# Altium integrated library Xilinx Aerospace and Defense.IntLib: 197 symbols (part 31 of 56)
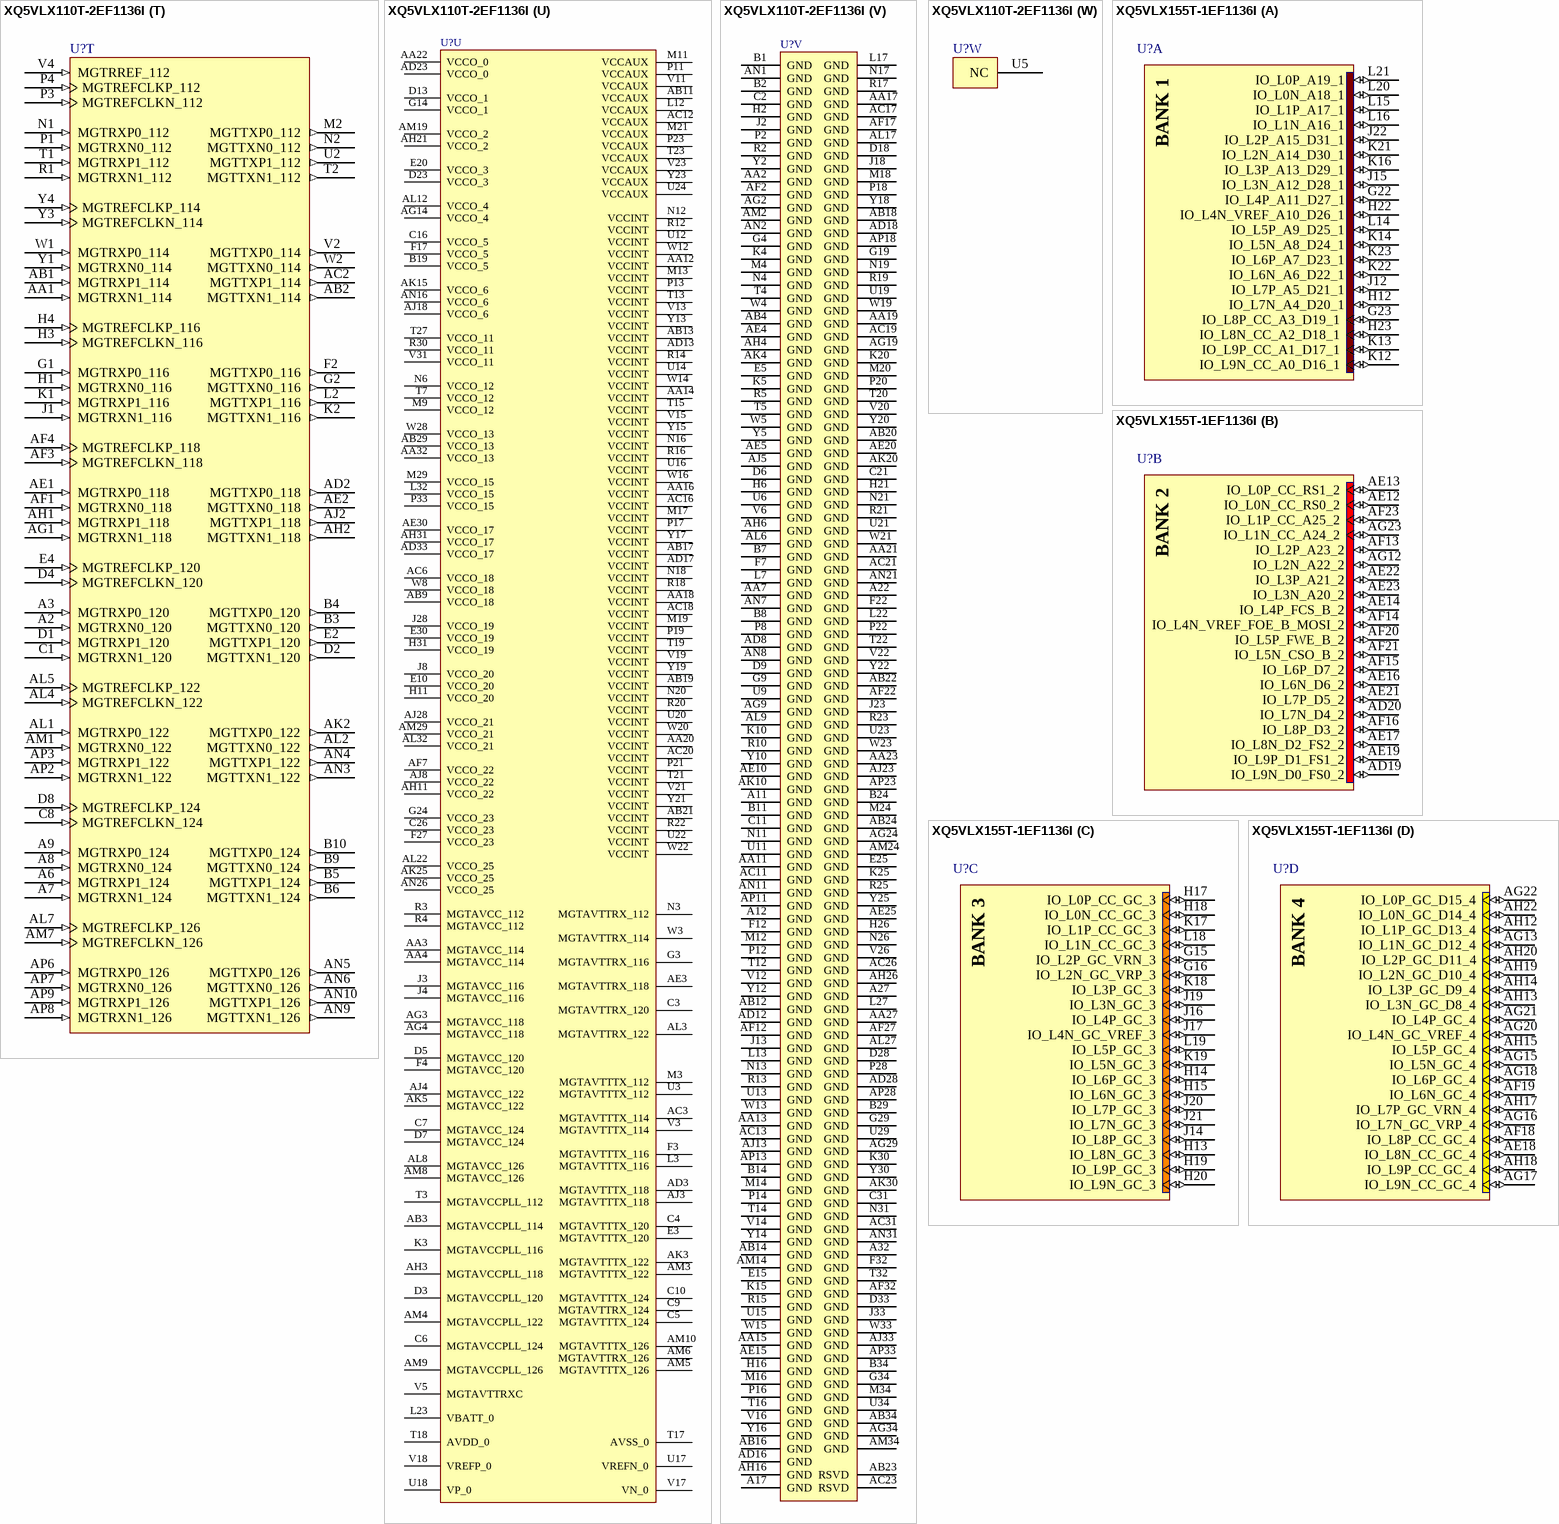
[diagram p441: symbols XQ5VLX110T-2EF1136I to XQ5VLX155T-1EF1136I]

## XQ5VLX110T-2EF1136I
designator U?
Virtex-5Q LXT Platform FPGA, 640 User I/Os, 1136-Ball EFBGA, Speed Grade 2, Industrial Grade; ComponentAvailability: Confirm availability with manufacturer.; Note: Do not connect a single-ended clock to the N-side of clock capable pins (CC & GC pins).; Published: 17-Nov-2009; LatestRevisionDate: 01-Mar-2010; LatestRevisionNote: Updated to datasheet version 1.1 Dec-2009.; DatasheetVersion: ver1.1, Dec-2009; PackageVersion: ver1.0, May-2009; PackageReference: EF1136; Publisher: Altium Limited; PackageDescription: 1136-Ball Flip Chip Ball Grid Array (EF1136); Code_JEDEC: MS-034-AAR-1 (Depopulated); ComponentLink1Description: Virtex-5Q Datasheet; ComponentLink1URL: http://www.xilinx.com/support/documentation/data_sheets/ds174.pdf; ComponentLink2Description: Pinout Specification; ComponentLink2URL: http://direct.xilinx.com/bvdocs/userguides/ug195.pdf; ComponentLink3Description: EF1136 Package Drawing; ComponentLink3URL: http://www.xilinx.com/support/documentation/package_specs/ef1136.pdf; ComponentLink4Description: Virtex-5Q Documents; ComponentLink4URL: http://www.xilinx.com/support/documentation/virtex-5q.htm; ComponentLink5Description: Xilinx.com Home; ComponentLink5URL: http://www.xilinx.com
footprint EF1136 (BGA, 1136-Leads, Body 35x35mm, Pitch 1mm)
signal-integrity model XQ5VLX110T_EF1136 (Virtex-5Q)
part A pins: G22 IO_L4P_A11_D27_1 (io), G23 IO_L8P_CC_A3_D19_1 (io), H12 IO_L7N_A4_D20_1 (io), H22 IO_L4N_VREF_A10_D26_1 (io), H23 IO_L8N_CC_A2_D18_1 (io), J12 IO_L7P_A5_D21_1 (io), J15 IO_L3N_A12_D28_1 (io), J22 IO_L2P_A15_D31_1 (io), K12 IO_L9N_CC_A0_D16_1 (io), K13 IO_L9P_CC_A1_D17_1 (io), K14 IO_L5N_A8_D24_1 (io), K16 IO_L3P_A13_D29_1 (io), K21 IO_L2N_A14_D30_1 (io), K22 IO_L6N_A6_D22_1 (io), K23 IO_L6P_A7_D23_1 (io), L14 IO_L5P_A9_D25_1 (io), L15 IO_L1P_A17_1 (io), L16 IO_L1N_A16_1 (io), L20 IO_L0N_A18_1 (io), L21 IO_L0P_A19_1 (io)
part B pins: AD19 IO_L9N_D0_FS0_2 (io), AD20 IO_L7N_D4_2 (io), AE12 IO_L0N_CC_RS0_2 (io), AE13 IO_L0P_CC_RS1_2 (io), AE14 IO_L4P_FCS_B_2 (io), AE16 IO_L6N_D6_2 (io), AE17 IO_L8N_D2_FS2_2 (io), AE19 IO_L9P_D1_FS1_2 (io), AE21 IO_L7P_D5_2 (io), AE22 IO_L3P_A21_2 (io), AE23 IO_L3N_A20_2 (io), AF13 IO_L2P_A23_2 (io), AF14 IO_L4N_VREF_FOE_B_MOSI_2 (io), AF15 IO_L6P_D7_2 (io), AF16 IO_L8P_D3_2 (io), AF20 IO_L5P_FWE_B_2 (io), AF21 IO_L5N_CSO_B_2 (io), AF23 IO_L1P_CC_A25_2 (io), AG12 IO_L2N_A22_2 (io), AG23 IO_L1N_CC_A24_2 (io)
part C pins: G15 IO_L2P_GC_VRN_3 (io), G16 IO_L2N_GC_VRP_3 (io), H13 IO_L8N_GC_3 (io), H14 IO_L6P_GC_3 (io), H15 IO_L6N_GC_3 (io), H17 IO_L0P_CC_GC_3 (io), H18 IO_L0N_CC_GC_3 (io), H19 IO_L9P_GC_3 (io), H20 IO_L9N_GC_3 (io), J14 IO_L8P_GC_3 (io), J16 IO_L4P_GC_3 (io), J17 IO_L4N_GC_VREF_3 (io), J19 IO_L3N_GC_3 (io), J20 IO_L7P_GC_3 (io), J21 IO_L7N_GC_3 (io), K17 IO_L1P_CC_GC_3 (io), K18 IO_L3P_GC_3 (io), K19 IO_L5N_GC_3 (io), L18 IO_L1N_CC_GC_3 (io), L19 IO_L5P_GC_3 (io)
part D pins: AE18 IO_L8N_CC_GC_4 (io), AF18 IO_L8P_CC_GC_4 (io), AF19 IO_L6N_GC_4 (io), AG13 IO_L1N_GC_D12_4 (io), AG15 IO_L5N_GC_4 (io), AG16 IO_L7N_GC_VRP_4 (io), AG17 IO_L9N_CC_GC_4 (io), AG18 IO_L6P_GC_4 (io), AG20 IO_L4N_GC_VREF_4 (io), AG21 IO_L4P_GC_4 (io), AG22 IO_L0P_GC_D15_4 (io), AH12 IO_L1P_GC_D13_4 (io), AH13 IO_L3N_GC_D8_4 (io), AH14 IO_L3P_GC_D9_4 (io), AH15 IO_L5P_GC_4 (io), AH17 IO_L7P_GC_VRN_4 (io), AH18 IO_L9P_CC_GC_4 (io), AH19 IO_L2N_GC_D10_4 (io), AH20 IO_L2P_GC_D11_4 (io), AH22 IO_L0N_GC_D14_4 (io)
part E pins: A14 IO_L1N_5 (io), A15 IO_L1P_5 (io), A16 IO_L2N_5 (io), B15 IO_L0N_5 (io), B16 IO_L0P_5 (io), B17 IO_L2P_5 (io), C14 IO_L3P_5 (io), C15 IO_L3N_5 (io), C17 IO_L5P_5 (io), D14 IO_L9P_CC_5 (io), D15 IO_L7N_5 (io), D16 IO_L7P_5 (io), D17 IO_L5N_5 (io), D19 IO_L12N_VRP_5 (io), D20 IO_L6N_5 (io), D21 IO_L13P_5 (io), D22 IO_L13N_5 (io), D24 IO_L17P_5 (io), E14 IO_L9N_CC_5 (io), E16 IO_L10N_CC_5 (io), E17 IO_L10P_CC_5 (io), E18 IO_L12P_VRN_5 (io), E19 IO_L4P_5 (io), E21 IO_L6P_5 (io), E22 IO_L15P_5 (io), E23 IO_L17N_5 (io), E24 IO_L19N_5 (io), F14 IO_L18P_5 (io), F15 IO_L18N_5 (io), F16 IO_L16N_5 (io), F18 IO_L14P_5 (io), F19 IO_L4N_VREF_5 (io), F20 IO_L8N_CC_5 (io), F21 IO_L11P_CC_5 (io), F23 IO_L15N_5 (io), F24 IO_L19P_5 (io), G17 IO_L16P_5 (io), G18 IO_L14N_VREF_5 (io), G20 IO_L8P_CC_5 (io), G21 IO_L11N_CC_5 (io)
part F pins: AH23 IO_L2P_6 (io), AH24 IO_L0P_6 (io), AJ12 IO_L1N_6 (io), AJ14 IO_L5P_6 (io), AJ15 IO_L9N_CC_6 (io), AJ16 IO_L9P_CC_6 (io), AJ17 IO_L12N_VRP_6 (io), AJ19 IO_L15P_6 (io), AJ20 IO_L8N_CC_6 (io), AJ21 IO_L8P_CC_6 (io), AJ22 IO_L2N_6 (io), AJ24 IO_L0N_6 (io), AK12 IO_L1P_6 (io), AK13 IO_L3N_6 (io), AK14 IO_L5N_6 (io), AK16 IO_L10P_CC_6 (io), AK17 IO_L12P_VRN_6 (io), AK18 IO_L14P_6 (io), AK19 IO_L15N_6 (io), AK21 IO_L11N_CC_6 (io), AK22 IO_L6N_6 (io), AK23 IO_L6P_6 (io), AK24 IO_L4P_6 (io), AL13 IO_L3P_6 (io), AL14 IO_L7N_6 (io), AL15 IO_L7P_6 (io), AL16 IO_L10N_CC_6 (io), AL18 IO_L14N_VREF_6 (io), AL19 IO_L13P_6 (io), AL20 IO_L13N_6 (io), AL21 IO_L11P_CC_6 (io), AL23 IO_L4N_VREF_6 (io), AM15 IO_L16P_6 (io), AM16 IO_L16N_6 (io), AM17 IO_L19P_6 (io), AN15 IO_L18P_6 (io), AN17 IO_L19N_6 (io), AP15 IO_L18N_6 (io), AP16 IO_L17P_6 (io), AP17 IO_L17N_6 (io)
part G pins: A33 IO_L0N_11 (io), B32 IO_L0P_11 (io), B33 IO_L1P_11 (io), C32 IO_L2P_11 (io), C33 IO_L1N_11 (io), C34 IO_L3P_11 (io), D32 IO_L2N_11 (io), D34 IO_L3N_11 (io), E32 IO_L6P_11 (io), E33 IO_L6N_11 (io), E34 IO_L5N_11 (io), F33 IO_L5P_11 (io), F34 IO_L7N_11 (io), G32 IO_L4P_11 (io), G33 IO_L7P_11 (io), H32 IO_L4N_VREF_11 (io), H33 IO_L8N_CC_11 (io), H34 IO_L9P_CC_11 (io), J32 IO_L8P_CC_11 (io), J34 IO_L9N_CC_11 (io), K32 IO_L11N_CC_SM14N_11 (io), K33 IO_L11P_CC_SM14P_11 (io), K34 IO_L10N_CC_SM15N_11 (io), L33 IO_L13P_11 (io), L34 IO_L10P_CC_SM15P_11 (io), M32 IO_L13N_11 (io), M33 IO_L12N_VRP_11 (io), N32 IO_L15N_SM13N_11 (io), N33 IO_L12P_VRN_11 (io), N34 IO_L14N_VREF_11 (io), P32 IO_L15P_SM13P_11 (io), P34 IO_L14P_11 (io), R32 IO_L17N_SM11N_11 (io), R33 IO_L17P_SM11P_11 (io), R34 IO_L16N_SM12N_11 (io), T33 IO_L16P_SM12P_11 (io), T34 IO_L18N_SM10N_11 (io), U31 IO_L19N_SM9N_11 (io), U32 IO_L19P_SM9P_11 (io), U33 IO_L18P_SM10P_11 (io)
part H pins: E6 IO_L19P_12 (io), E7 IO_L19N_12 (io), F5 IO_L15P_12 (io), F6 IO_L15N_12 (io), G5 IO_L13N_12 (io), G6 IO_L17P_12 (io), G7 IO_L17N_12 (io), H5 IO_L13P_12 (io), H7 IO_L11P_CC_12 (io), J5 IO_L8N_CC_12 (io), J6 IO_L8P_CC_12 (io), J7 IO_L11N_CC_12 (io), K6 IO_L6N_12 (io), K7 IO_L6P_12 (io), L4 IO_L4P_12 (io), L5 IO_L4N_VREF_12 (io), L6 IO_L2N_12 (io), M5 IO_L0N_12 (io), M6 IO_L0P_12 (io), M7 IO_L2P_12 (io), N5 IO_L3P_12 (io), N7 IO_L1N_12 (io), N8 IO_L1P_12 (io), P5 IO_L3N_12 (io), P6 IO_L5N_12 (io), P7 IO_L5P_12 (io), P9 IO_L12N_VRP_12 (io), P10 IO_L14N_VREF_12 (io), R6 IO_L7P_12 (io), R7 IO_L9P_CC_12 (io), R8 IO_L9N_CC_12 (io), R9 IO_L12P_VRN_12 (io), R11 IO_L14P_12 (io), T6 IO_L7N_12 (io), T8 IO_L10P_CC_12 (io), T9 IO_L18P_12 (io), T10 IO_L16P_12 (io), T11 IO_L16N_12 (io), U7 IO_L10N_CC_12 (io), U10 IO_L18N_12 (io)
part I pins: AA33 IO_L2N_SM6N_13 (io), AA34 IO_L3P_SM5P_13 (io), AB32 IO_L6N_SM3N_13 (io), AB33 IO_L7N_SM2N_13 (io), AC32 IO_L6P_SM3P_13 (io), AC33 IO_L7P_SM2P_13 (io), AC34 IO_L5P_SM4P_13 (io), AD32 IO_L11P_CC_13 (io), AD34 IO_L5N_SM4N_13 (io), AE32 IO_L11N_CC_13 (io), AE33 IO_L8N_CC_SM1N_13 (io), AE34 IO_L9N_CC_SM0N_13 (io), AF33 IO_L8P_CC_SM1P_13 (io), AF34 IO_L9P_CC_SM0P_13 (io), AG32 IO_L14P_13 (io), AG33 IO_L12P_VRN_13 (io), AH32 IO_L14N_VREF_13 (io), AH33 IO_L12N_VRP_13 (io), AH34 IO_L10P_CC_13 (io), AJ32 IO_L15P_13 (io), AJ34 IO_L10N_CC_13 (io), AK32 IO_L15N_13 (io), AK33 IO_L13N_13 (io), AK34 IO_L13P_13 (io), AL33 IO_L16N_13 (io), AL34 IO_L16P_13 (io), AM32 IO_L17N_13 (io), AM33 IO_L17P_13 (io), AN32 IO_L19P_13 (io), AN33 IO_L18N_13 (io), AN34 IO_L18P_13 (io), AP32 IO_L19N_13 (io), V32 IO_L0P_SM8P_13 (io), V33 IO_L0N_SM8N_13 (io), V34 IO_L1N_SM7N_13 (io), W32 IO_L4N_VREF_13 (io), W34 IO_L1P_SM7P_13 (io), Y32 IO_L4P_13 (io), Y33 IO_L2P_SM6P_13 (io), Y34 IO_L3N_SM5N_13 (io)
part J pins: E29 IO_L0P_15 (io), E31 IO_L3N_15 (io), F29 IO_L0N_15 (io), F30 IO_L1N_15 (io), F31 IO_L3P_15 (io), G30 IO_L1P_15 (io), G31 IO_L5N_15 (io), H29 IO_L2P_15 (io), H30 IO_L5P_15 (io), J29 IO_L2N_15 (io), J30 IO_L6P_15 (io), J31 IO_L6N_15 (io), K29 IO_L4N_VREF_15 (io), K31 IO_L9P_CC_15 (io), L29 IO_L4P_15 (io), L30 IO_L7P_15 (io), L31 IO_L9N_CC_15 (io), M30 IO_L7N_15 (io), M31 IO_L11P_CC_15 (io), N29 IO_L8P_CC_15 (io), N30 IO_L11N_CC_15 (io), P29 IO_L8N_CC_15 (io), P30 IO_L10N_CC_15 (io), P31 IO_L10P_CC_15 (io), R26 IO_L17P_15 (io), R27 IO_L17N_15 (io), R28 IO_L12P_VRN_15 (io), R29 IO_L12N_VRP_15 (io), R31 IO_L13N_15 (io), T25 IO_L19N_15 (io), T26 IO_L18N_15 (io), T28 IO_L15P_15 (io), T29 IO_L15N_15 (io), T30 IO_L14N_VREF_15 (io), T31 IO_L13P_15 (io), U25 IO_L19P_15 (io), U26 IO_L18P_15 (io), U27 IO_L16P_15 (io), U28 IO_L16N_15 (io), U30 IO_L14P_15 (io)
part K pins: AA29 IO_L11P_CC_17 (io), AA30 IO_L11N_CC_17 (io), AA31 IO_L9N_CC_17 (io), AB30 IO_L10P_CC_17 (io), AB31 IO_L9P_CC_17 (io), AC29 IO_L13N_17 (io), AC30 IO_L10N_CC_17 (io), AD29 IO_L15N_17 (io), AD30 IO_L13P_17 (io), AD31 IO_L12P_VRN_17 (io), AE29 IO_L15P_17 (io), AE31 IO_L12N_VRP_17 (io), AF29 IO_L17P_17 (io), AF30 IO_L17N_17 (io), AF31 IO_L14P_17 (io), AG30 IO_L19N_17 (io), AG31 IO_L14N_VREF_17 (io), AH29 IO_L19P_17 (io), AH30 IO_L18N_17 (io), AJ30 IO_L18P_17 (io), AJ31 IO_L16P_17 (io), AK31 IO_L16N_17 (io), V24 IO_L0N_17 (io), V25 IO_L2P_17 (io), V27 IO_L5N_17 (io), V28 IO_L5P_17 (io), V29 IO_L7N_17 (io), V30 IO_L4P_17 (io), W24 IO_L0P_17 (io), W25 IO_L2N_17 (io), W26 IO_L1N_17 (io), W27 IO_L3N_17 (io), W29 IO_L7P_17 (io), W30 IO_L4N_VREF_17 (io), W31 IO_L6P_17 (io), Y26 IO_L1P_17 (io), Y27 IO_L3P_17 (io), Y28 IO_L8P_CC_17 (io), Y29 IO_L8N_CC_17 (io), Y31 IO_L6N_17 (io)
part L pins: AA5 IO_L2P_18 (io), AA6 IO_L6P_18 (io), AB5 IO_L2N_18 (io), AB6 IO_L1P_18 (io), AB7 IO_L1N_18 (io), AC4 IO_L0P_18 (io), AC5 IO_L0N_18 (io), AC7 IO_L3P_18 (io), AD4 IO_L5P_18 (io), AD5 IO_L5N_18 (io), AD6 IO_L7P_18 (io), AD7 IO_L3N_18 (io), AE6 IO_L7N_18 (io), AE7 IO_L9P_CC_18 (io), AF5 IO_L10N_CC_18 (io), AF6 IO_L9N_CC_18 (io), AG5 IO_L10P_CC_18 (io), AG6 IO_L12N_VRP_18 (io), AG7 IO_L14N_VREF_18 (io), AH5 IO_L12P_VRN_18 (io), AH7 IO_L14P_18 (io), AJ6 IO_L16N_18 (io), AJ7 IO_L16P_18 (io), AK6 IO_L18N_18 (io), AK7 IO_L18P_18 (io), U8 IO_L17N_18 (io), V7 IO_L11N_CC_18 (io), V8 IO_L17P_18 (io), V9 IO_L19N_18 (io), V10 IO_L19P_18 (io), W6 IO_L8P_CC_18 (io), W7 IO_L11P_CC_18 (io), W9 IO_L15N_18 (io), W10 IO_L15P_18 (io), W11 IO_L13N_18 (io), Y6 IO_L8N_CC_18 (io), Y7 IO_L6N_18 (io), Y8 IO_L4P_18 (io), Y9 IO_L4N_VREF_18 (io), Y11 IO_L13P_18 (io)
part M pins: E26 IO_L11P_CC_19 (io), E27 IO_L11N_CC_19 (io), E28 IO_L10P_CC_19 (io), F25 IO_L7P_19 (io), F26 IO_L7N_19 (io), F28 IO_L10N_CC_19 (io), G25 IO_L5P_19 (io), G26 IO_L5N_19 (io), G27 IO_L8P_CC_19 (io), G28 IO_L9N_CC_19 (io), H24 IO_L6N_19 (io), H25 IO_L6P_19 (io), H27 IO_L8N_CC_19 (io), H28 IO_L9P_CC_19 (io), J24 IO_L2P_19 (io), J25 IO_L2N_19 (io), J26 IO_L4N_VREF_19 (io), J27 IO_L4P_19 (io), K24 IO_L0P_19 (io), K26 IO_L14N_VREF_19 (io), K27 IO_L14P_19 (io), K28 IO_L13P_19 (io), L24 IO_L0N_19 (io), L25 IO_L1P_19 (io), L26 IO_L1N_19 (io), L28 IO_L13N_19 (io), M25 IO_L3P_19 (io), M26 IO_L3N_19 (io), M27 IO_L12N_VRP_19 (io), M28 IO_L15P_19 (io), N24 IO_L17P_19 (io), N25 IO_L18N_19 (io), N27 IO_L12P_VRN_19 (io), N28 IO_L15N_19 (io), P24 IO_L17N_19 (io), P25 IO_L18P_19 (io), P26 IO_L16P_19 (io), P27 IO_L16N_19 (io), R24 IO_L19P_19 (io), T24 IO_L19N_19 (io)
part N pins: A13 IO_L8P_CC_20 (io), B12 IO_L8N_CC_20 (io), B13 IO_L11P_CC_20 (io), C12 IO_L6N_20 (io), C13 IO_L11N_CC_20 (io), D10 IO_L4N_VREF_20 (io), D11 IO_L4P_20 (io), D12 IO_L6P_20 (io), E8 IO_L0N_20 (io), E9 IO_L0P_20 (io), E11 IO_L15N_20 (io), E12 IO_L17P_20 (io), E13 IO_L17N_20 (io), F8 IO_L1N_20 (io), F9 IO_L1P_20 (io), F10 IO_L2P_20 (io), F11 IO_L15P_20 (io), F13 IO_L19P_20 (io), G8 IO_L3P_20 (io), G10 IO_L2N_20 (io), G11 IO_L13P_20 (io), G12 IO_L13N_20 (io), G13 IO_L19N_20 (io), H8 IO_L3N_20 (io), H9 IO_L7N_20 (io), H10 IO_L7P_20 (io), J9 IO_L9N_CC_20 (io), J10 IO_L9P_CC_20 (io), J11 IO_L5N_20 (io), K8 IO_L10P_CC_20 (io), K9 IO_L10N_CC_20 (io), K11 IO_L5P_20 (io), L8 IO_L14N_VREF_20 (io), L9 IO_L16N_20 (io), L10 IO_L12P_VRN_20 (io), L11 IO_L12N_VRP_20 (io), M8 IO_L14P_20 (io), M10 IO_L16P_20 (io), N9 IO_L18N_20 (io), N10 IO_L18P_20 (io)
part O pins: AA24 IO_L2N_21 (io), AA25 IO_L0P_21 (io), AA26 IO_L0N_21 (io), AA28 IO_L5N_21 (io), AB25 IO_L3P_21 (io), AB26 IO_L3N_21 (io), AB27 IO_L1P_21 (io), AB28 IO_L5P_21 (io), AC24 IO_L17N_21 (io), AC25 IO_L17P_21 (io), AC27 IO_L1N_21 (io), AC28 IO_L4P_21 (io), AD24 IO_L19P_21 (io), AD25 IO_L18N_21 (io), AD26 IO_L18P_21 (io), AD27 IO_L4N_VREF_21 (io), AE24 IO_L19N_21 (io), AE26 IO_L16N_21 (io), AE27 IO_L16P_21 (io), AE28 IO_L7P_21 (io), AF24 IO_L13P_21 (io), AF25 IO_L15P_21 (io), AF26 IO_L15N_21 (io), AF28 IO_L7N_21 (io), AG25 IO_L13N_21 (io), AG26 IO_L14N_VREF_21 (io), AG27 IO_L14P_21 (io), AG28 IO_L6P_21 (io), AH25 IO_L12N_VRP_21 (io), AH27 IO_L11P_CC_21 (io), AH28 IO_L6N_21 (io), AJ25 IO_L12P_VRN_21 (io), AJ26 IO_L11N_CC_21 (io), AJ27 IO_L8N_CC_21 (io), AJ29 IO_L9N_CC_21 (io), AK26 IO_L8P_CC_21 (io), AK27 IO_L10N_CC_21 (io), AK28 IO_L10P_CC_21 (io), AK29 IO_L9P_CC_21 (io), Y24 IO_L2P_21 (io)
part P pins: AA8 IO_L3P_22 (io), AA9 IO_L3N_22 (io), AA10 IO_L1N_22 (io), AB8 IO_L5N_22 (io), AB10 IO_L1P_22 (io), AC8 IO_L5P_22 (io), AC9 IO_L7N_22 (io), AC10 IO_L7P_22 (io), AD9 IO_L9N_CC_22 (io), AD10 IO_L10P_CC_22 (io), AD11 IO_L10N_CC_22 (io), AE8 IO_L9P_CC_22 (io), AE9 IO_L12N_VRP_22 (io), AE11 IO_L16N_22 (io), AF8 IO_L12P_VRN_22 (io), AF9 IO_L14P_22 (io), AF10 IO_L14N_VREF_22 (io), AF11 IO_L16P_22 (io), AG8 IO_L18P_22 (io), AG10 IO_L19P_22 (io), AG11 IO_L19N_22 (io), AH8 IO_L18N_22 (io), AH9 IO_L17P_22 (io), AH10 IO_L17N_22 (io), AJ9 IO_L15P_22 (io), AJ10 IO_L15N_22 (io), AJ11 IO_L11N_CC_22 (io), AK8 IO_L13P_22 (io), AK9 IO_L13N_22 (io), AK11 IO_L11P_CC_22 (io), AL10 IO_L8N_CC_22 (io), AL11 IO_L8P_CC_22 (io), AM11 IO_L6N_22 (io), AM12 IO_L6P_22 (io), AM13 IO_L2N_22 (io), AN12 IO_L4N_VREF_22 (io), AN13 IO_L2P_22 (io), AN14 IO_L0P_22 (io), AP12 IO_L4P_22 (io), AP14 IO_L0N_22 (io)
part Q pins: A18 IO_L4N_VREF_23 (io), A19 IO_L6P_23 (io), A20 IO_L6N_23 (io), A21 IO_L1N_23 (io), A23 IO_L7P_23 (io), A24 IO_L7N_23 (io), A25 IO_L9N_CC_23 (io), A26 IO_L10N_CC_23 (io), A28 IO_L14N_VREF_23 (io), A29 IO_L14P_23 (io), A30 IO_L19P_23 (io), A31 IO_L16N_23 (io), B18 IO_L4P_23 (io), B20 IO_L0N_23 (io), B21 IO_L1P_23 (io), B22 IO_L3N_23 (io), B23 IO_L5N_23 (io), B25 IO_L11P_CC_23 (io), B26 IO_L9P_CC_23 (io), B27 IO_L10P_CC_23 (io), B28 IO_L12N_VRP_23 (io), B30 IO_L19N_23 (io), B31 IO_L16P_23 (io), C18 IO_L2N_23 (io), C19 IO_L2P_23 (io), C20 IO_L0P_23 (io), C22 IO_L3P_23 (io), C23 IO_L5P_23 (io), C24 IO_L8P_CC_23 (io), C25 IO_L11N_CC_23 (io), C27 IO_L13N_23 (io), C28 IO_L15P_23 (io), C29 IO_L12P_VRN_23 (io), C30 IO_L17P_23 (io), D25 IO_L8N_CC_23 (io), D26 IO_L13P_23 (io), D27 IO_L15N_23 (io), D29 IO_L17N_23 (io), D30 IO_L18N_23 (io), D31 IO_L18P_23 (io)
part R pins: AL24 IO_L11N_CC_25 (io), AL25 IO_L11P_CC_25 (io), AL26 IO_L9N_CC_25 (io), AL28 IO_L4N_VREF_25 (io), AL29 IO_L0P_25 (io), AL30 IO_L0N_25 (io), AL31 IO_L1N_25 (io), AM18 IO_L17N_25 (io), AM20 IO_L13N_25 (io), AM21 IO_L13P_25 (io), AM22 IO_L16N_25 (io), AM23 IO_L14N_VREF_25 (io), AM25 IO_L8N_CC_25 (io), AM26 IO_L9P_CC_25 (io), AM27 IO_L4P_25 (io), AM28 IO_L7N_25 (io), AM30 IO_L2N_25 (io), AM31 IO_L1P_25 (io), AN18 IO_L17P_25 (io), AN19 IO_L19P_25 (io), AN20 IO_L15P_25 (io), AN22 IO_L16P_25 (io), AN23 IO_L14P_25 (io), AN24 IO_L12P_VRN_25 (io), AN25 IO_L8P_CC_25 (io), AN27 IO_L6N_25 (io), AN28 IO_L7P_25 (io), AN29 IO_L5N_25 (io), AN30 IO_L2P_25 (io), AP19 IO_L19N_25 (io), AP20 IO_L15N_25 (io), AP21 IO_L18N_25 (io), AP22 IO_L18P_25 (io), AP24 IO_L12N_VRP_25 (io), AP25 IO_L10N_CC_25 (io), AP26 IO_L10P_CC_25 (io), AP27 IO_L6P_25 (io), AP29 IO_L5P_25 (io), AP30 IO_L3P_25 (io), AP31 IO_L3N_25 (io)
part S pins: AB15 TCK_0 (in), AC14 TMS_0 (in), AC15 TDI_0 (in), AC22 M1_0 (in), AD14 TDO_0 (out), AD15 D_OUT_BUSY_0 (out), AD21 M0_0 (in), AD22 M2_0 (in), M15 DONE_0 (io), M22 PROGRAM_B_0 (in), M23 HSWAPEN_0 (in), N14 INIT_B_0 (io), N15 CCLK_0 (io), N22 CS_B_0 (in), N23 RDWR_B_0 (in), P15 D_IN_0 (in), U4 FLOAT, W17 DXN_0, W18 DXP_0
part T pins: A2 MGTRXN0_120 (in), A3 MGTRXP0_120 (in), A6 MGTRXP1_124 (in), A7 MGTRXN1_124 (in), A8 MGTRXN0_124 (in), A9 MGTRXP0_124 (in), AA1 MGTRXN1_114 (in), AB1 MGTRXP1_114 (in), AB2 MGTTXN1_114 (out), AC2 MGTTXP1_114 (out), AD2 MGTTXP0_118 (out), AE1 MGTRXP0_118 (in), AE2 MGTTXN0_118 (out), AF1 MGTRXN0_118 (in), AF3 MGTREFCLKN_118 (in), AF4 MGTREFCLKP_118 (in), AG1 MGTRXN1_118 (in), AH1 MGTRXP1_118 (in), AH2 MGTTXN1_118 (out), AJ2 MGTTXP1_118 (out), AK2 MGTTXP0_122 (out), AL1 MGTRXP0_122 (in), AL2 MGTTXN0_122 (out), AL4 MGTREFCLKN_122 (in), AL5 MGTREFCLKP_122 (in), AL7 MGTREFCLKP_126 (in), AM1 MGTRXN0_122 (in), AM7 MGTREFCLKN_126 (in), AN3 MGTTXN1_122 (out), AN4 MGTTXP1_122 (out), AN5 MGTTXP0_126 (out), AN6 MGTTXN0_126 (out), AN9 MGTTXN1_126 (out), AN10 MGTTXP1_126 (out), AP2 MGTRXN1_122 (in), AP3 MGTRXP1_122 (in), AP6 MGTRXP0_126 (in), AP7 MGTRXN0_126 (in), AP8 MGTRXN1_126 (in), AP9 MGTRXP1_126 (in), B3 MGTTXN0_120 (out), B4 MGTTXP0_120 (out), B5 MGTTXP1_124 (out), B6 MGTTXN1_124 (out), B9 MGTTXN0_124 (out), B10 MGTTXP0_124 (out), C1 MGTRXN1_120 (in), C8 MGTREFCLKN_124 (in), D1 MGTRXP1_120 (in), D2 MGTTXN1_120 (out), D4 MGTREFCLKN_120 (in), D8 MGTREFCLKP_124 (in), E2 MGTTXP1_120 (out), E4 MGTREFCLKP_120 (in), F2 MGTTXP0_116 (out), G1 MGTRXP0_116 (in), G2 MGTTXN0_116 (out), H1 MGTRXN0_116 (in), H3 MGTREFCLKN_116 (in), H4 MGTREFCLKP_116 (in), J1 MGTRXN1_116 (in), K1 MGTRXP1_116 (in), K2 MGTTXN1_116 (out), L2 MGTTXP1_116 (out), M2 MGTTXP0_112 (out), N1 MGTRXP0_112 (in), N2 MGTTXN0_112 (out), P1 MGTRXN0_112 (in), P3 MGTREFCLKN_112 (in), P4 MGTREFCLKP_112 (in), R1 MGTRXN1_112 (in), T1 MGTRXP1_112 (in), T2 MGTTXN1_112 (out), U2 MGTTXP1_112 (out), V2 MGTTXP0_114 (out), V4 MGTRREF_112 (in), W1 MGTRXP0_114 (in), W2 MGTTXN0_114 (out), Y1 MGTRXN0_114 (in), Y3 MGTREFCLKN_114 (in), Y4 MGTREFCLKP_114 (in)
part U pins: AA3 MGTAVCC_114 (power), AA4 MGTAVCC_114 (power), AA12 VCCINT (power), AA14 VCCINT (power), AA16 VCCINT (power), AA18 VCCINT (power), AA20 VCCINT (power), AA22 VCCO_0 (power), AA32 VCCO_13 (power), AB3 MGTAVCCPLL_114 (power), AB9 VCCO_18 (power), AB11 VCCAUX (power), AB13 VCCINT (power), AB17 VCCINT (power), AB19 VCCINT (power), AB21 VCCINT (power), AB29 VCCO_13 (power), AC3 MGTAVTTTX_114 (power), AC6 VCCO_18 (power), AC12 VCCAUX (power), AC16 VCCINT (power), AC18 VCCINT (power), AC20 VCCINT (power), AD3 MGTAVTTTX_118 (power), AD13 VCCINT (power), AD17 VCCINT (power), AD23 VCCO_0 (power), AD33 VCCO_17 (power), AE3 MGTAVTTRX_118 (power), AE30 VCCO_17 (power), AF7 VCCO_22 (power), AG3 MGTAVCC_118 (power), AG4 MGTAVCC_118 (power), AG14 VCCO_4 (power), AH3 MGTAVCCPLL_118 (power), AH11 VCCO_22 (power), AH21 VCCO_2 (power), AH31 VCCO_17 (power), AJ3 MGTAVTTTX_118 (power), AJ4 MGTAVCC_122 (power), AJ8 VCCO_22 (power), AJ18 VCCO_6 (power), AJ28 VCCO_21 (power), AK3 MGTAVTTTX_122 (power), AK5 MGTAVCC_122 (power), AK15 VCCO_6 (power), AK25 VCCO_25 (power), AL3 MGTAVTTRX_122 (power), AL8 MGTAVCC_126 (power), AL12 VCCO_4 (power), AL22 VCCO_25 (power), AL32 VCCO_21 (power), AM3 MGTAVTTTX_122 (power), AM4 MGTAVCCPLL_122 (power), AM5 MGTAVTTTX_126 (power), AM6 MGTAVTTRX_126 (power), AM8 MGTAVCC_126 (power), AM9 MGTAVCCPLL_126 (power), AM10 MGTAVTTTX_126 (power), AM19 VCCO_2 (power), AM29 VCCO_21 (power), AN16 VCCO_6 (power), AN26 VCCO_25 (power), B19 VCCO_5 (power), C3 MGTAVTTRX_120 (power), C4 MGTAVTTTX_120 (power), C5 MGTAVTTTX_124 (power), C6 MGTAVCCPLL_124 (power), C7 MGTAVCC_124 (power), C9 MGTAVTTRX_124 (power), C10 MGTAVTTTX_124 (power), C16 VCCO_5 (power), C26 VCCO_23 (power), D3 MGTAVCCPLL_120 (power), D5 MGTAVCC_120 (power), D7 MGTAVCC_124 (power), D13 VCCO_1 (power), D23 VCCO_3 (power), E3 MGTAVTTTX_120 (power), E10 VCCO_20 (power), E20 VCCO_3 (power), E30 VCCO_19 (power), F3 MGTAVTTTX_116 (power), F4 MGTAVCC_120 (power), F17 VCCO_5 (power), F27 VCCO_23 (power), G3 MGTAVTTRX_116 (power), G14 VCCO_1 (power), G24 VCCO_23 (power), H11 VCCO_20 (power), H31 VCCO_19 (power), J3 MGTAVCC_116 (power), J4 MGTAVCC_116 (power), J8 VCCO_20 (power), J28 VCCO_19 (power), K3 MGTAVCCPLL_116 (power), L3 MGTAVTTTX_116 (power), L12 VCCAUX (power), L23 VBATT_0 (power), L32 VCCO_15 (power), M3 MGTAVTTTX_112 (power), M9 VCCO_12 (power), M11 VCCAUX (power), M13 VCCINT (power), M17 VCCINT (power), M19 VCCINT (power), M21 VCCAUX (power), M29 VCCO_15 (power), N3 MGTAVTTRX_112 (power), N6 VCCO_12 (power), N12 VCCINT (power), N16 VCCINT (power), N18 VCCINT (power), N20 VCCINT (power), P11 VCCAUX (power), P13 VCCINT (power), P17 VCCINT (power), P19 VCCINT (power), P21 VCCINT (power), P23 VCCAUX (power), P33 VCCO_15 (power), R3 MGTAVCC_112 (power), R4 MGTAVCC_112 (power), R12 VCCINT (power), R14 VCCINT (power), R16 VCCINT (power), R18 VCCINT (power), R20 VCCINT (power), R22 VCCINT (power), R30 VCCO_11 (power), T3 MGTAVCCPLL_112 (power), T7 VCCO_12 (power), T13 VCCINT (power), T15 VCCINT (power), T17 AVSS_0 (power), T18 AVDD_0 (power), T19 VCCINT (power), T21 VCCINT (power), T23 VCCAUX (power), T27 VCCO_11 (power), U3 MGTAVTTTX_112 (power), U12 VCCINT (power), U14 VCCINT (power), U16 VCCINT (power), U17 VREFN_0 (power), U18 VP_0 (power), U20 VCCINT (power), U22 VCCINT (power), U24 VCCAUX (power), V3 MGTAVTTTX_114 (power), V5 MGTAVTTRXC (power), V11 VCCAUX (power), V13 VCCINT (power), V15 VCCINT (power), V17 VN_0 (power), V18 VREFP_0 (power), V19 VCCINT (power), V21 VCCINT (power), V23 VCCAUX (power), V31 VCCO_11 (power), W3 MGTAVTTRX_114 (power), W8 VCCO_18 (power), W12 VCCINT (power), W14 VCCINT (power), W16 VCCINT (power), W20 VCCINT (power), W22 VCCINT (power), W28 VCCO_13 (power), Y13 VCCINT (power), Y15 VCCINT (power), Y17 VCCINT (power), Y19 VCCINT (power), Y21 VCCINT (power), Y23 VCCAUX (power)
part V pins: A11 GND (power), A12 GND (power), A17 GND (power), A22 GND (power), A27 GND (power), A32 GND (power), AA2 GND (power), AA7 GND (power), AA11 GND (power), AA13 GND (power), AA15 GND (power), AA17 GND (power), AA19 GND (power), AA21 GND (power), AA23 GND (power), AA27 GND (power), AB4 GND (power), AB12 GND (power), AB14 GND (power), AB16 GND (power), AB18 GND (power), AB20 GND (power), AB22 GND (power), AB23 RSVD, AB24 GND (power), AB34 GND (power), AC11 GND (power), AC13 GND (power), AC17 GND (power), AC19 GND (power), AC21 GND (power), AC23 RSVD, AC26 GND (power), AC31 GND (power), AD8 GND (power), AD12 GND (power), AD16 GND (power), AD18 GND (power), AD28 GND (power), AE4 GND (power), AE5 GND (power), AE10 GND (power), AE15 GND (power), AE20 GND (power), AE25 GND (power), AF2 GND (power), AF12 GND (power), AF17 GND (power), AF22 GND (power), AF27 GND (power), AF32 GND (power), AG2 GND (power), AG9 GND (power), AG19 GND (power), AG24 GND (power), AG29 GND (power), AG34 GND (power), AH4 GND (power), AH6 GND (power), AH16 GND (power), AH26 GND (power), AJ5 GND (power), AJ13 GND (power), AJ23 GND (power), AJ33 GND (power), AK4 GND (power), AK10 GND (power), AK20 GND (power), AK30 GND (power), AL6 GND (power), AL9 GND (power), AL17 GND (power), AL27 GND (power), AM2 GND (power), AM14 GND (power), AM24 GND (power), AM34 GND (power), AN1 GND (power), AN2 GND (power), AN7 GND (power), AN8 GND (power), AN11 GND (power), AN21 GND (power), AN31 GND (power), AP11 GND (power), AP13 GND (power), AP18 GND (power), AP23 GND (power), AP28 GND (power), AP33 GND (power), B1 GND (power), B2 GND (power), B7 GND (power), B8 GND (power), B11 GND (power), B14 GND (power), B24 GND (power), B29 GND (power), B34 GND (power), C2 GND (power), C11 GND (power), C21 GND (power), C31 GND (power), D6 GND (power), D9 GND (power), D18 GND (power), D28 GND (power), D33 GND (power), E5 GND (power), E15 GND (power), E25 GND (power), F7 GND (power), F12 GND (power), F22 GND (power), F32 GND (power), G4 GND (power), G9 GND (power), G19 GND (power), G29 GND (power), G34 GND (power), H2 GND (power), H6 GND (power), H16 GND (power), H21 GND (power), H26 GND (power), J2 GND (power), J13 GND (power), J18 GND (power), J23 GND (power), J33 GND (power), K4 GND (power), K5 GND (power), K10 GND (power), K15 GND (power), K20 GND (power), K25 GND (power), K30 GND (power), L7 GND (power), L13 GND (power), L17 GND (power), L22 GND (power), L27 GND (power), M4 GND (power), M12 GND (power), M14 GND (power), M16 GND (power), M18 GND (power), M20 GND (power), M24 GND (power), M34 GND (power), N4 GND (power), N11 GND (power), N13 GND (power), N17 GND (power), N19 GND (power), N21 GND (power), N26 GND (power), N31 GND (power), P2 GND (power), P8 GND (power), P12 GND (power), P14 GND (power), P16 GND (power), P18 GND (power), P20 GND (power), P22 GND (power), P28 GND (power), R2 GND (power), R5 GND (power), R10 GND (power), R13 GND (power), R15 GND (power), R17 GND (power), R19 GND (power), R21 GND (power), R23 GND (power), R25 GND (power), T4 GND (power), T5 GND (power), T12 GND (power), T14 GND (power), T16 GND (power), T20 GND (power), T22 GND (power), T32 GND (power), U6 GND (power), U9 GND (power), U11 GND (power), U13 GND (power), U15 GND (power), U19 GND (power), U21 GND (power), U23 GND (power), U29 GND (power), U34 GND (power), V6 GND (power), V12 GND (power), V14 GND (power), V16 GND (power), V20 GND (power), V22 GND (power), V26 GND (power), W4 GND (power), W5 GND (power), W13 GND (power), W15 GND (power), W19 GND (power), W21 GND (power), W23 GND (power), W33 GND (power), Y2 GND (power), Y5 GND (power), Y10 GND (power), Y12 GND (power), Y14 GND (power), Y16 GND (power), Y18 GND (power), Y20 GND (power), Y22 GND (power), Y25 GND (power), Y30 GND (power)
part W pins: U5 NC
part A text: BANK 1
part B text: BANK 2
part C text: BANK 3
part D text: BANK 4
part E text: BANK 5
part F text: BANK 6
part G text: BANK 11
part H text: BANK 12
part I text: BANK 13
part J text: BANK 15
part K text: BANK 17
part L text: BANK 18
part M text: BANK 19
part N text: BANK 20
part O text: BANK 21
part P text: BANK 22
part Q text: BANK 23
part R text: BANK 25

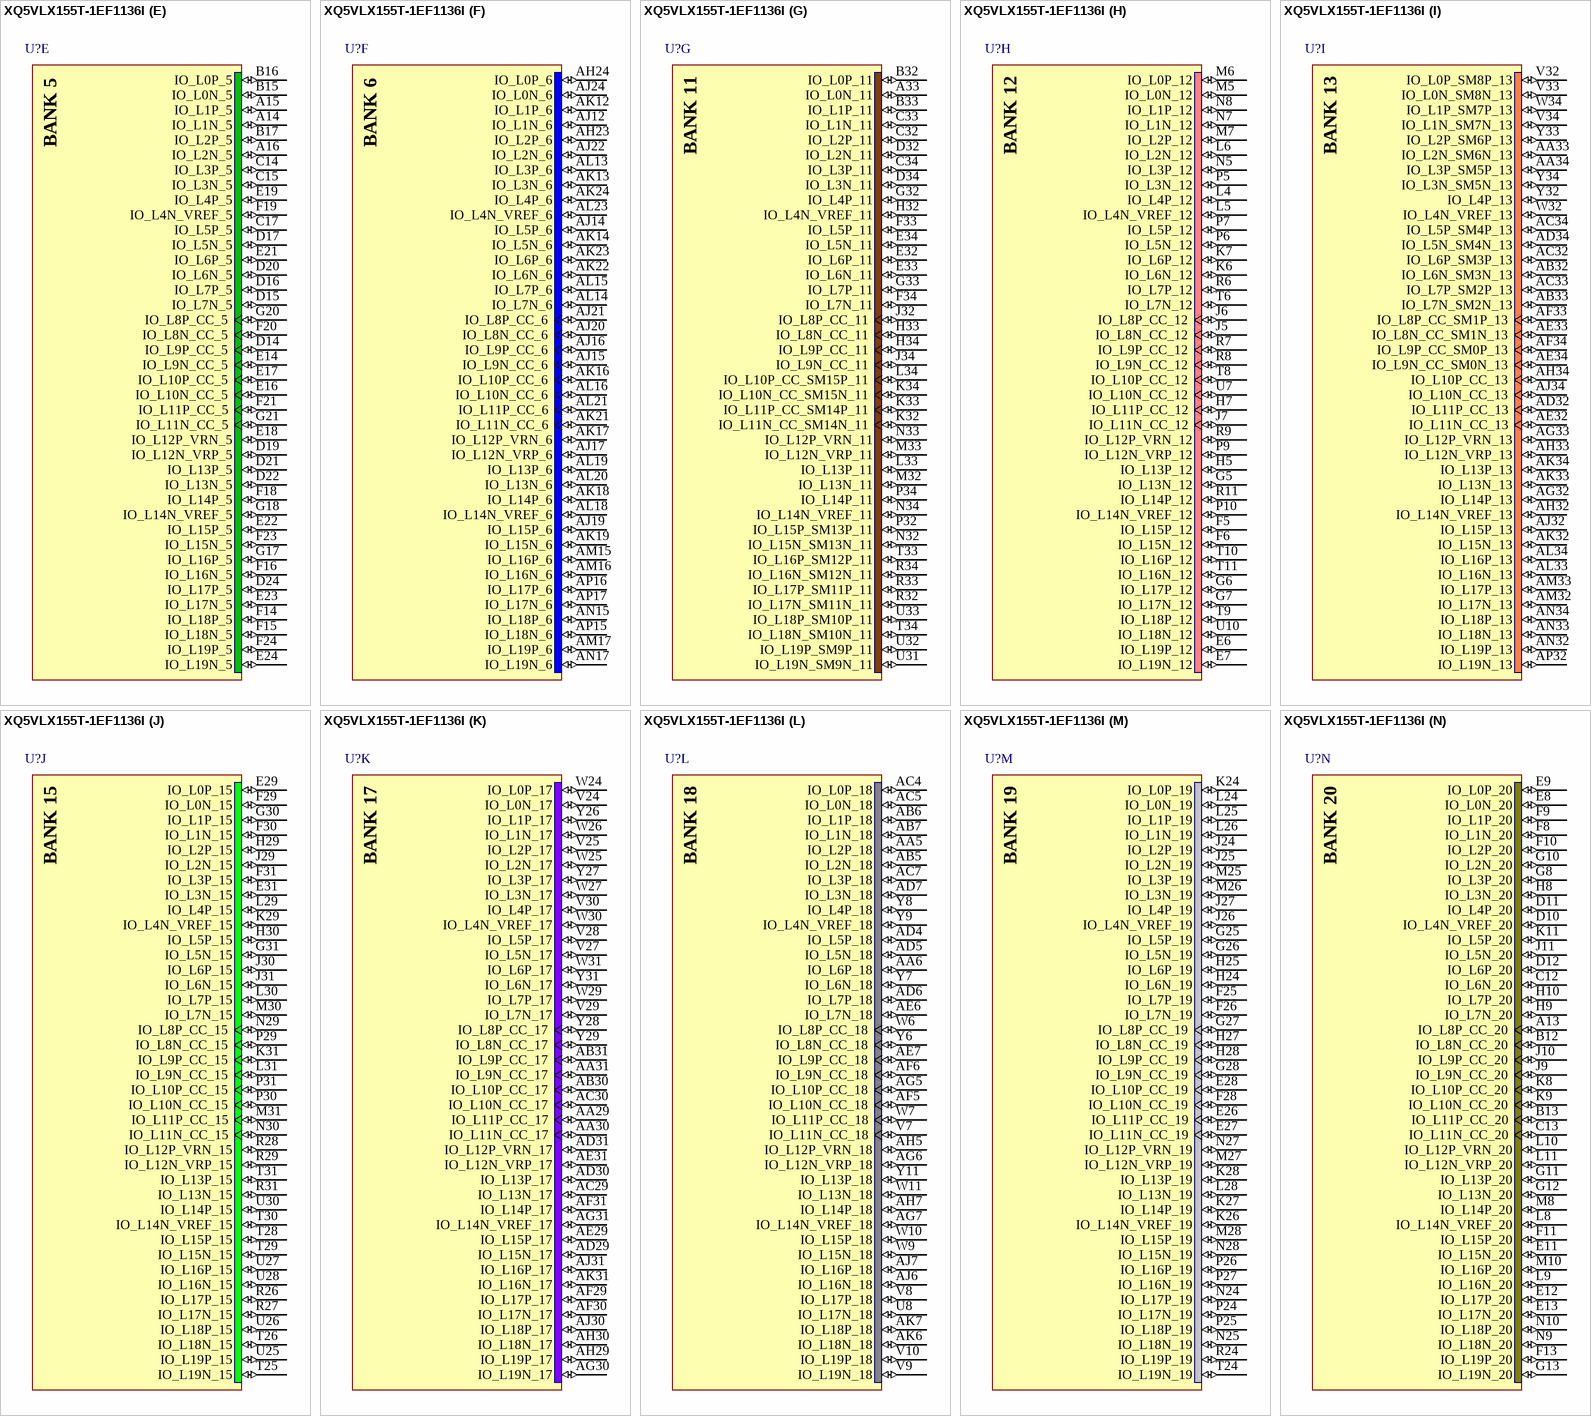
[diagram p119: symbol XQ5VLX155T-1EF1136I]

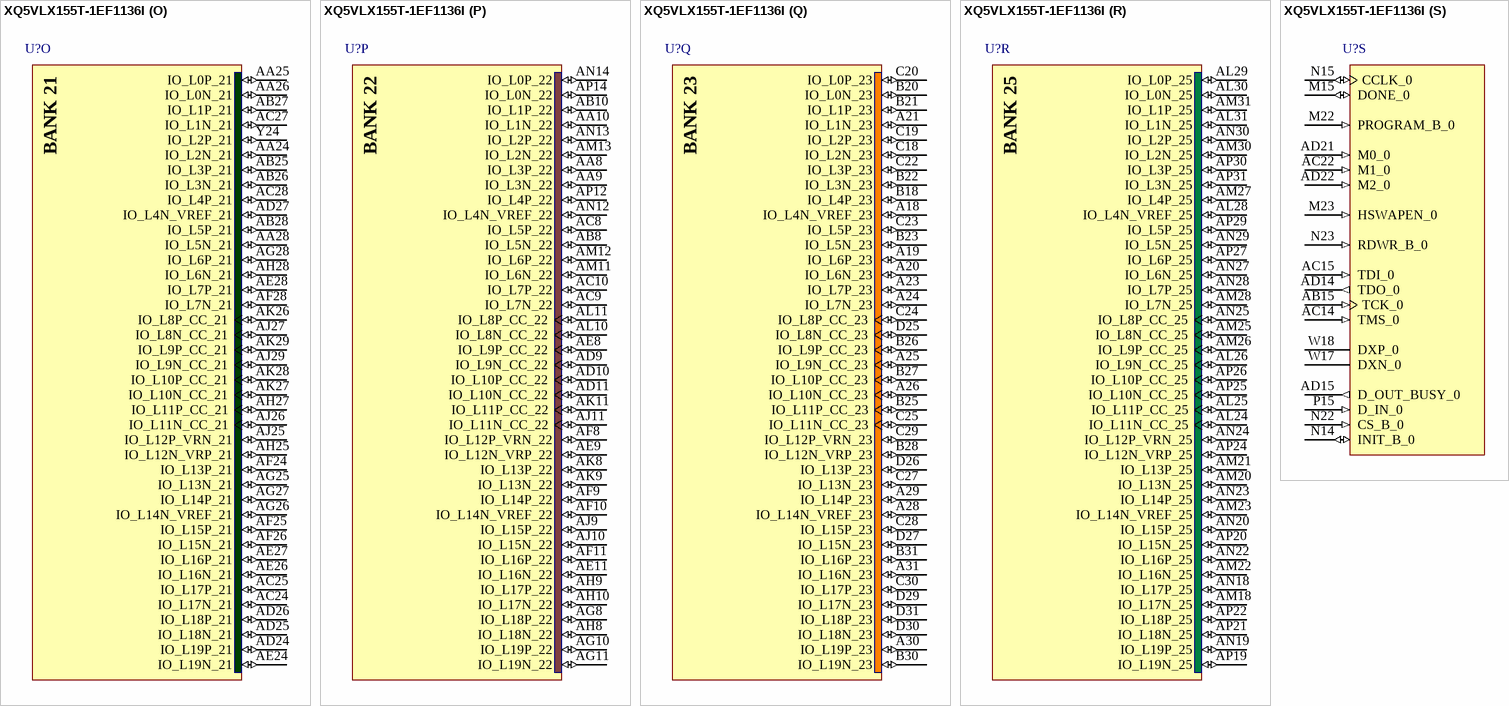
[diagram p120: symbol XQ5VLX155T-1EF1136I]

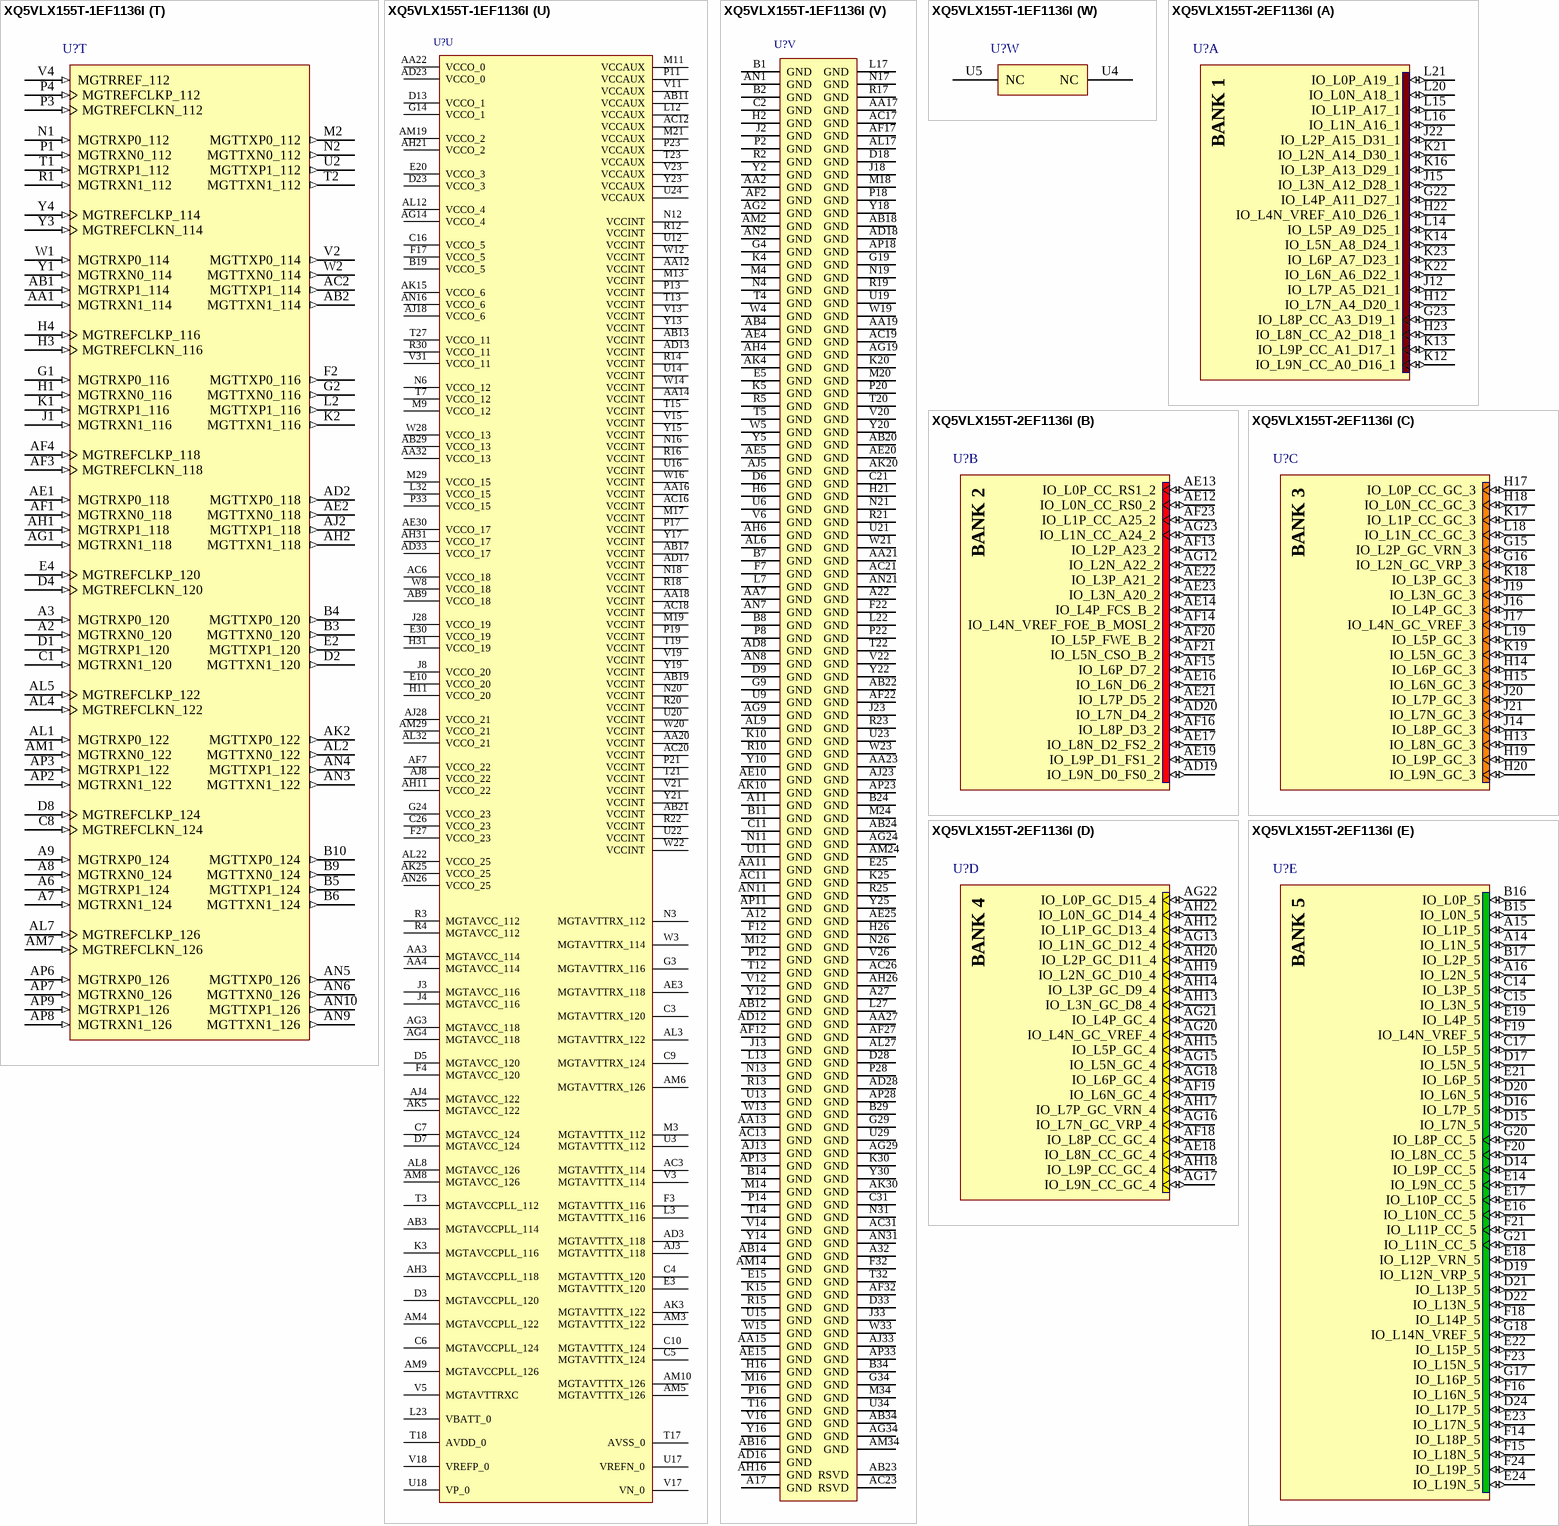
[diagram p121: symbols XQ5VLX155T-1EF1136I to XQ5VLX155T-2EF1136I]